# EAGLE library part MICROSD-PUSH-OUT (library microsd_2)
T-Flash Push-Out Micro SD Card Reader 14.75mm x 14.5mm SMD with external pins
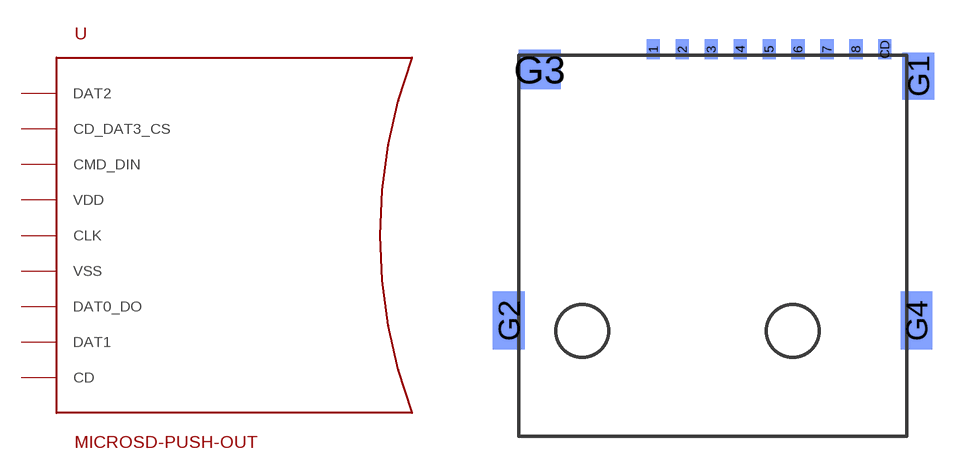
[diagram p0: symbol with the pads of MICROSD-PUSH-OUT; footprint MICROSD-PUSH-OUT]

Designator prefix -

## MICROSD-PUSH-OUT  [MICROSD-PUSH-OUT]
1  DAT2
2  CD_DAT3_CS
3  CMD_DIN
4  VDD
5  CLK
6  VSS
7  DAT0_DO
8  DAT1
CD  CD
G1  VSS
G2  VSS
G3  VSS
G4  VSS

## Footprint MICROSD-PUSH-OUT (pad centres in mm)
T-Flash Push-Out Micro SD Card Reader 9 pin SD mode and 7 pin SPI mode compatible 14.75mm x 14.5mm
smd 0.5 x 0.75 bottom: 1 5.125,0.225; 2 6.225,0.225; 3 7.325,0.225; 4 8.425,0.225; 5 9.525,0.225; 6 10.625,0.225; 7 11.725,0.225; 8 12.825,0.225; CD 13.925,0.225
smd 1.2 x 1.8 bottom: G1 15.195,-0.8
smd 1.2 x 2.2 bottom: G2 -0.375,-10.1; G4 15.125,-10.1
smd 1.6 x 1.5 bottom: G3 0.8,-0.55